# Altium footprint library TPS5431X(PWP20).PcbLib: 3 footprints
Each footprint in its own frame and in the unit in brackets; x right, y up, seen from the top. Pads: shape width x height; smd on the part's side, far side on the other; paste and mask are expansions set on the pad; w line width, h text height; cw(c..) or ccw(c..) is an arc to the next point about the centre after c.
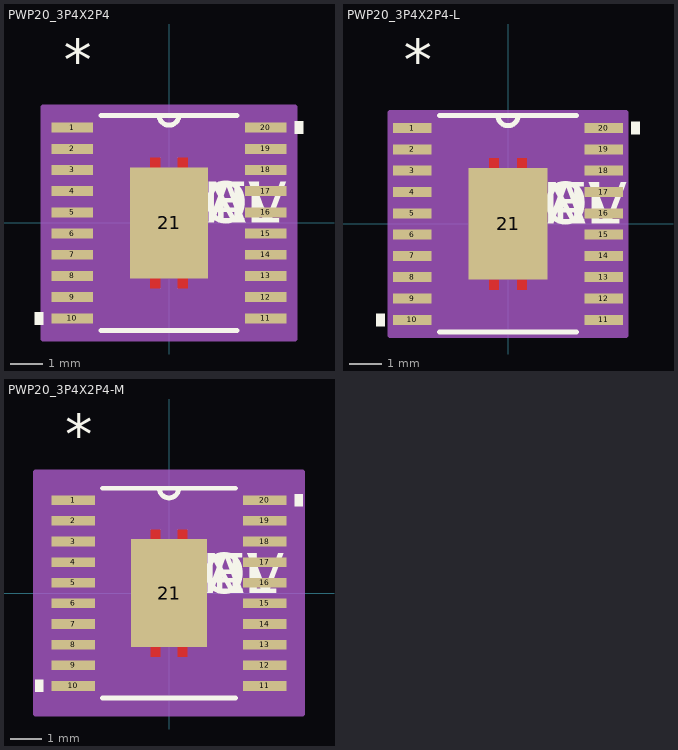
[diagram p0: the footprints below, top view; thin cyan lines are the x and y axes]

## PWP20_3P4X2P4 [mil]
pads (21):
  rect 50x12 smd: 1(-117,115.16) 2(-117,89.57) 3(-117,63.98) 4(-117,38.39) 5(-117,12.8) 6(-117,-12.8) 7(-117,-38.39) 8(-117,-63.98) 9(-117,-89.57) 10(-117,-115.16) 11(117,-115.16) 12(117,-89.57) 13(117,-63.98) 14(117,-38.39) 15(117,-12.8) 16(117,12.8) 17(117,38.39) 18(117,63.98) 19(117,89.57) 20(117,115.16)
  rect 94.49x133.86 smd: 21(0,0)
Top Layer:
  region: 0,66.93
  region: 0,-66.93
  region: 22.64,66.93 10.83,66.93 10.83,78.74 22.64,78.74
  region: -22.64,66.93 -10.83,66.93 -10.83,78.74 -22.64,78.74
  region: -22.64,-66.93 -10.83,-66.93 -10.83,-78.74 -22.64,-78.74
  region: 22.64,-66.93 10.83,-66.93 10.83,-78.74 22.64,-78.74
Top Overlay:
  region: -152,-107.66 -162,-107.66 -162,-122.66 -152,-122.66
  region: 152,122.66 162,122.66 162,107.66 152,107.66
  lines w6: -82.33,-130 82.33,-130 ; -82.33,130 82.33,130 ; -12,130 ccw(c0,130) 12,130
  text "*" at -127,172.16 h50
  text "PN" at 0,0 h50
  text "DEV" at 0,0 h50
  text "VAL" at 0,0 h50
  text "TOL" at 0,0 h50
Top Solder:
  region: 0,66.93
  region: 0,-66.93
  region: 22.64,66.93 10.83,66.93 10.83,78.74 22.64,78.74
  region: -22.64,66.93 -10.83,66.93 -10.83,78.74 -22.64,78.74
  region: -22.64,-66.93 -10.83,-66.93 -10.83,-78.74 -22.64,-78.74
  region: 22.64,-66.93 10.83,-66.93 10.83,-78.74 22.64,-78.74
Mechanical 13:
  lines w0: -12,130 ccw(c0,130) 12,130
  text "*" at -127,172.16 h50
  text "RefDes2" at 0,0 h50
Mechanical 15:
  region: 152,-140 -152,-140 -152,140 152,140
  lines w6: -152,-140 -152,140 152,140 152,-140 -152,-140

## PWP20_3P4X2P4-L [mil]
pads (21):
  rect 46x12 smd: 1(-115,115.16) 2(-115,89.57) 3(-115,63.98) 4(-115,38.39) 5(-115,12.8) 6(-115,-12.8) 7(-115,-38.39) 8(-115,-63.98) 9(-115,-89.57) 10(-115,-115.16) 11(115,-115.16) 12(115,-89.57) 13(115,-63.98) 14(115,-38.39) 15(115,-12.8) 16(115,12.8) 17(115,38.39) 18(115,63.98) 19(115,89.57) 20(115,115.16)
  rect 94.49x133.86 smd: 21(0,0)
Top Layer:
  region: 0,66.93
  region: 0,-66.93
  region: 22.64,66.93 10.83,66.93 10.83,78.74 22.64,78.74
  region: -22.64,66.93 -10.83,66.93 -10.83,78.74 -22.64,78.74
  region: -22.64,-66.93 -10.83,-66.93 -10.83,-78.74 -22.64,-78.74
  region: 22.64,-66.93 10.83,-66.93 10.83,-78.74 22.64,-78.74
Top Overlay:
  region: -148,-107.66 -158,-107.66 -158,-122.66 -148,-122.66
  region: 148,122.66 158,122.66 158,107.66 148,107.66
  lines w6: -82.33,-130 82.33,-130 ; -82.33,130 82.33,130 ; -12,130 ccw(c0,130) 12,130
  text "*" at -125,172.16 h50
  text "PN" at 0,0 h50
  text "DEV" at 0,0 h50
  text "VAL" at 0,0 h50
  text "TOL" at 0,0 h50
Top Solder:
  region: 0,66.93
  region: 0,-66.93
  region: 22.64,66.93 10.83,66.93 10.83,78.74 22.64,78.74
  region: -22.64,66.93 -10.83,66.93 -10.83,78.74 -22.64,78.74
  region: -22.64,-66.93 -10.83,-66.93 -10.83,-78.74 -22.64,-78.74
  region: 22.64,-66.93 10.83,-66.93 10.83,-78.74 22.64,-78.74
Mechanical 13:
  lines w0: -12,130 ccw(c0,130) 12,130
  text "*" at -125,172.16 h50
  text "RefDes2" at 0,0 h50
Mechanical 15:
  region: 142,-134 -142,-134 -142,134 142,134
  lines w6: -142,-134 -142,134 142,134 142,-134 -142,-134

## PWP20_3P4X2P4-M [mil]
pads (21):
  rect 54x12 smd: 1(-119,115.16) 2(-119,89.57) 3(-119,63.98) 4(-119,38.39) 5(-119,12.8) 6(-119,-12.8) 7(-119,-38.39) 8(-119,-63.98) 9(-119,-89.57) 10(-119,-115.16) 11(119,-115.16) 12(119,-89.57) 13(119,-63.98) 14(119,-38.39) 15(119,-12.8) 16(119,12.8) 17(119,38.39) 18(119,63.98) 19(119,89.57) 20(119,115.16)
  rect 94.49x133.86 smd: 21(0,0)
Top Layer:
  region: 0,66.93
  region: 0,-66.93
  region: 22.64,66.93 10.83,66.93 10.83,78.74 22.64,78.74
  region: -22.64,66.93 -10.83,66.93 -10.83,78.74 -22.64,78.74
  region: -22.64,-66.93 -10.83,-66.93 -10.83,-78.74 -22.64,-78.74
  region: 22.64,-66.93 10.83,-66.93 10.83,-78.74 22.64,-78.74
Top Overlay:
  region: -156,-107.66 -166,-107.66 -166,-122.66 -156,-122.66
  region: 156,122.66 166,122.66 166,107.66 156,107.66
  lines w6: -82.33,-130 82.33,-130 ; -82.33,130 82.33,130 ; -12,130 ccw(c0,130) 12,130
  text "*" at -129,172.16 h50
  text "PN" at 0,0 h50
  text "DEV" at 0,0 h50
  text "VAL" at 0,0 h50
  text "TOL" at 0,0 h50
Top Solder:
  region: 0,66.93
  region: 0,-66.93
  region: 22.64,66.93 10.83,66.93 10.83,78.74 22.64,78.74
  region: -22.64,66.93 -10.83,66.93 -10.83,78.74 -22.64,78.74
  region: -22.64,-66.93 -10.83,-66.93 -10.83,-78.74 -22.64,-78.74
  region: 22.64,-66.93 10.83,-66.93 10.83,-78.74 22.64,-78.74
Mechanical 13:
  lines w0: -12,130 ccw(c0,130) 12,130
  text "*" at -129,172.16 h50
  text "RefDes2" at 0,0 h50
Mechanical 15:
  region: 166,-150 -166,-150 -166,150 166,150
  lines w6: -166,-150 -166,150 166,150 166,-150 -166,-150